# EAGLE library part LORA32U4II (library bschulz)
LoRa 32u4 Mounting Header Mounting header designed for the LoRa 32u4 unit built by BSFrance <https://bsfrance.fr/lora-long-range/1345-LoRa32u4-II-Lora-LiPo-Atmega32u4-SX1276-HPD13-868MHZ-EU-Antenna.html>
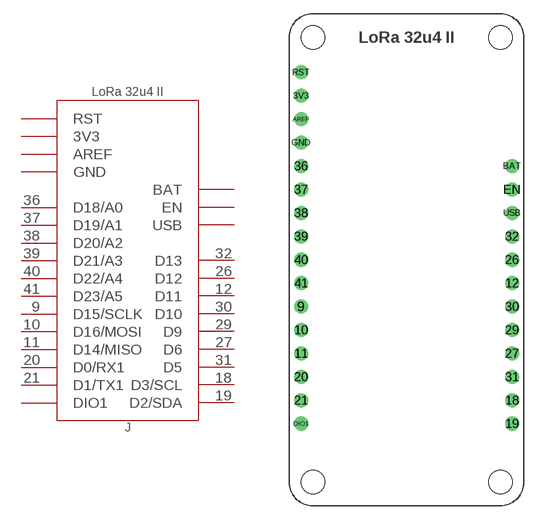
[diagram p113: symbol with the pads of LORA32U4II; footprint LORA32U4II]

Designator prefix J

## LORA32U4II  [LORA32U4II]
3V3  3V3  pwr
9  D15/SCLK
10  D16/MOSI
11  D14/MISO
12  D11
18  D3/SCL
19  D2/SDA
20  D0/RX1
21  D1/TX1
26  D12
27  D6
29  D9
30  D10
31  D5
32  D13
36  D18/A0
37  D19/A1
38  D20/A2
39  D21/A3
40  D22/A4
41  D23/A5
AREF  AREF  in
BAT  BAT  pwr
DIO1  DIO1
EN  EN  in
GND  GND  pwr
RST  RST  in
USB  USB  pwr

## Footprint LORA32U4II (pad centres in mm)
drill 1.016: 3V3 -11.43,-8.89; 9 -11.43,-31.75; 10 -11.43,-34.29; 11 -11.43,-36.83; 12 11.43,-29.21; 18 11.43,-41.91; 19 11.43,-44.44; 20 -11.43,-39.37; 21 -11.43,-41.91; 26 11.43,-26.67; 27 11.43,-36.83; 29 11.43,-34.29; 30 11.43,-31.75; 31 11.43,-39.37; 32 11.43,-24.13; 36 -11.43,-16.51; 37 -11.43,-19.05; 38 -11.43,-21.59; 39 -11.43,-24.13; 40 -11.43,-26.67; 41 -11.43,-29.21; AREF -11.43,-11.43; BAT 11.43,-16.51; DIO1 -11.43,-44.44; EN 11.43,-19.05; GND -11.43,-13.97; RST -11.43,-6.35; USB 11.43,-21.59
hole 2.54 at -10.16,-2.54
hole 2.54 at 10.16,-2.54
hole 2.54 at -10.16,-50.8
hole 2.54 at 10.16,-50.8